# Altium schematic symbol library 4_7KOHM.SCHLIB: 1 symbol
Pins are listed as number, name and electrical type; pins without a type are passive.

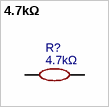
[diagram p0: symbol 4.7kΩ]

## 4.7kΩ
designator R?
Manufacturer: FH(风华); Manufacturer Part: RS-05K472JT; nameAlias: Value; Supplier: LCSC; Supplier Part: C115310; JLCPCB Part Class: Extended Part; spicePre: R; spiceSymbolName: RS-05K472JT
footprint R0805
pins: 1, 2